# Altium integrated library ON Semi Comm MODEM Circuit.IntLib: 1 symbol
Pins are listed as number, name and electrical type; pins without a type are passive.

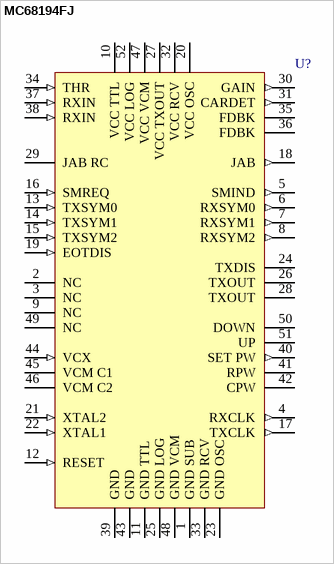
[diagram p0: symbol MC68194FJ]

## MC68194FJ
designator U?
Carrier Band Modem (CBM); ComponentAvailability: Not for New Design; Published: 15-Apr-2002; LatestRevisionDate: 13-Apr-2006; LatestRevisionNote: IPC-7351 Footprint Added.; DatasheetVersion: 20-Dec-1996; PackageReference: 778B-01; Publisher: Altium Limited; PackageDescription: 52-Pin Leaded Chip Carrier 1.27 mm Pitch; Code_IPC: PLCC-52; ComponentLink1Description: Manufacturer Link; ComponentLink1URL: http://www.onsemi.com/; ComponentLink2Description: Datasheet; ComponentLink2URL: http://www.onsemi.com/pub/Collateral/MC68194-D.PDF
footprint 778B-01_N (Leaded Chip Carrier, 52-Leads, Body 19x19mm, Pitch 1.27mm, IPC Medium Density)
footprint 778B-01_L (Leaded Chip Carrier, 52-Leads, Body 19x19mm, Pitch 1.27mm, IPC High Density)
footprint 778B-01_M (Leaded Chip Carrier, 52-Leads, Body 19x19mm, Pitch 1.27mm, IPC Low Density)
pins: 1 GND SUB (power), 2 NC, 3 NC, 4 RXCLK (out), 5 SMIND (out), 6 RXSYM0 (out), 7 RXSYM1 (out), 8 RXSYM2 (out), 9 NC, 10 VCC TTL (power), 11 GND TTL (power), 12 RESET (in), 13 TXSYM0 (in), 14 TXSYM1 (in), 15 TXSYM2 (in), 16 SMREQ (in), 17 TXCLK (out), 18 JAB (out), 19 EOTDIS (in), 20 VCC OSC (power), 21 XTAL2 (in), 22 XTAL1 (in), 23 GND OSC (power), 24 TXDIS (oc), 25 GND LOG (power), 26 TXOUT (oe), 27 VCC TXOUT (power), 28 TXOUT (oe), 29 JAB RC, 30 GAIN (out), 31 CARDET (out), 32 VCC RCV (power), 33 GND RCV (power), 34 THR (in), 35 FDBK, 36 FDBK, 37 RXIN (in), 38 RXIN (in), 39 GND (power), 40 SET PW (out), 41 RPW, 42 CPW, 43 GND (power), 44 VCX (in), 45 VCM C1, 46 VCM C2, 47 VCC VCM (power), 48 GND VCM (power), 49 NC, 50 DOWN (oe), 51 UP (oe), 52 VCC LOG (power)